# Altium footprint library 5747845-4.PcbLib: 2 footprints
Each footprint in its own frame and in the unit in brackets; x right, y up, seen from the top. Pads: shape width x height; smd on the part's side, far side on the other; paste and mask are expansions set on the pad; w line width, h text height; cw(c..) or ccw(c..) is an arc to the next point about the centre after c.
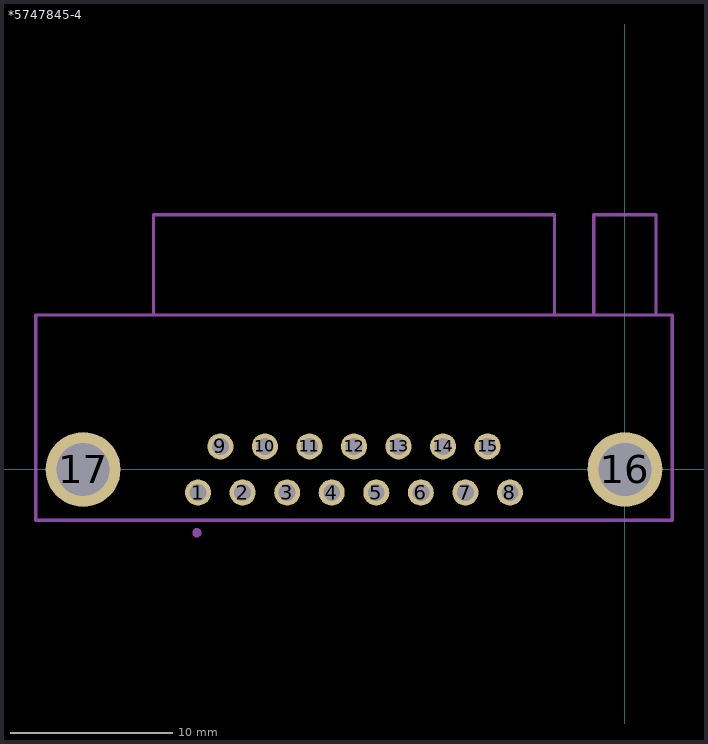
[diagram p0: the footprints below, top view; thin cyan lines are the x and y axes]

## *5747845-4 [mm]
pads (17):
  round 1.6 hole 1.04: 1(-26.25,-1.42) 2(-23.51,-1.42) 3(-20.77,-1.42) 4(-18.03,-1.42) 5(-15.29,-1.42) 6(-12.55,-1.42) 7(-9.81,-1.42) 8(-7.07,-1.42) 9(-24.88,1.42) 10(-22.14,1.42) 11(-19.4,1.42) 12(-16.66,1.42) 13(-13.92,1.42) 14(-11.18,1.42) 15(-8.44,1.42)
  round 4.6 hole 3.25: 16(0,0) 17(-33.32,0)
Mechanical 4:
  circle w0.5: c-26.325,-3.893 r0.034
  circle w0.5: c-26.325,-3.893 r0.034
  lines w0.2: -36.231,-3.127 2.911,-3.127 ; -36.231,-3.127 -36.231,9.497 ; -36.231,-3.127 -36.231,9.497 ; -36.231,-3.127 2.911,-3.127 ; -36.231,-3.127 2.911,-3.127 ; -36.231,-3.127 -36.231,9.497 ; -36.231,-3.127 -36.231,9.497 ; -36.231,-3.127 2.911,-3.127 ; -36.231,9.497 2.911,9.497 ; -36.231,9.497 2.911,9.497 ; -36.231,9.497 2.911,9.497 ; -36.231,9.497 2.911,9.497 ; -28.99,9.497 -28.99,15.669 ; -28.99,9.497 -28.99,15.669 ; -28.99,9.497 -28.99,15.669 ; -28.99,9.497 -28.99,15.669 ; -28.99,15.669 -4.33,15.669 ; -28.99,15.669 -4.33,15.669 ; -28.99,15.669 -4.33,15.669 ; -28.99,15.669 -4.33,15.669 ; -4.33,9.497 -4.33,15.669 ; -4.33,9.497 -4.33,15.669 ; -4.33,9.497 -4.33,15.669 ; -4.33,9.497 -4.33,15.669 ; -1.918,9.497 -1.918,15.669 ; -1.918,9.497 -1.918,15.669 ; -1.918,9.497 -1.918,15.669 ; -1.918,9.497 -1.918,15.669 ; -1.918,15.669 1.918,15.669 ; -1.918,15.669 1.918,15.669 ; -1.918,15.669 1.918,15.669 ; -1.918,15.669 1.918,15.669 ; 1.918,9.497 1.918,15.669 ; 1.918,9.497 1.918,15.669 ; 1.918,9.497 1.918,15.669 ; 1.918,9.497 1.918,15.669 ; 2.911,-3.127 2.911,9.497 ; 2.911,-3.127 2.911,9.497 ; 2.911,-3.127 2.911,9.497 ; 2.911,-3.127 2.911,9.497
3D body "c-5747845-4-b-3d.stp": height 12.62, standoff -3.19, extent -36.299,-3.033 3.071,15.862

## PCBComponent_1 [mm]